# Altium footprint library Interface_PcbLib.PcbLib: 20 footprints (part 2 of 2)
Each footprint in its own frame and in the unit in brackets; x right, y up, seen from the top. Pads: shape width x height; smd on the part's side, far side on the other; paste and mask are expansions set on the pad; w line width, h text height; cw(c..) or ccw(c..) is an arc to the next point about the centre after c.
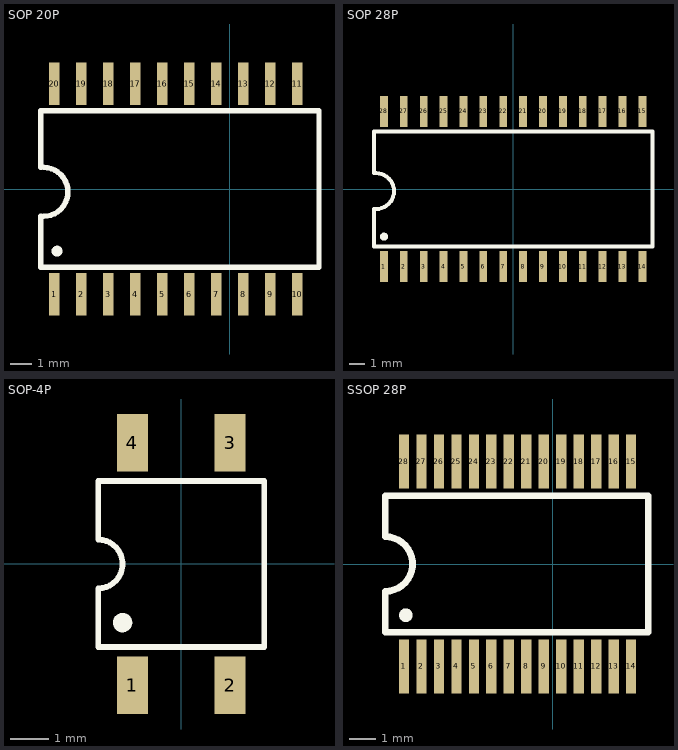
[diagram p1: the footprints below, top view; thin cyan lines are the x and y axes]

## SOP 20P [mm] "1.27 mm 糴7.5mm"
pads (20):
  rect 0.5x2 smd: 1(-8.255,-4.953) 2(-6.985,-4.953) 3(-5.715,-4.953) 4(-4.445,-4.953) 5(-3.175,-4.953) 6(-1.905,-4.953) 7(-0.635,-4.953) 8(0.635,-4.953) 9(1.905,-4.953) 10(3.175,-4.953) 11(3.175,4.953) 12(1.905,4.953) 13(0.635,4.953) 14(-0.635,4.953) 15(-1.905,4.953) 16(-3.175,4.953) 17(-4.445,4.953) 18(-5.715,4.953) 19(-6.985,4.953) 20(-8.255,4.953)
Top Overlay:
  circle w0.254: c-8.128,-2.921 r0.127
  lines w0.254: -8.89,-1.284 -8.89,-3.683 4.191,-3.683 4.191,3.683 -8.89,3.683 -8.89,1.016 ; -8.763,-1.284 ccw(c-8.763,-0.134) -8.763,1.016
3D body "User Library-SOIC_20-300.STEP": height 2.6, standoff 0, extent -8.84,-5.207 3.76,5.193

## SOP 28P [mm] "1.27 mm 糴7.5mm"
pads (28):
  rect 0.5x2 smd: 1(-8.255,-4.953) 2(-6.985,-4.953) 3(-5.715,-4.953) 4(-4.445,-4.953) 5(-3.175,-4.953) 6(-1.905,-4.953) 7(-0.635,-4.953) 8(0.635,-4.953) 9(1.905,-4.953) 10(3.175,-4.953) 11(4.445,-4.953) 12(5.715,-4.953) 13(6.985,-4.953) 14(8.255,-4.953) 15(8.255,4.953) 16(6.985,4.953) 17(5.715,4.953) 18(4.445,4.953) 19(3.175,4.953) 20(1.905,4.953) 21(0.635,4.953) 22(-0.635,4.953) 23(-1.905,4.953) 24(-3.175,4.953) 25(-4.445,4.953) 26(-5.715,4.953) 27(-6.985,4.953) 28(-8.255,4.953)
Top Overlay:
  circle w0.254: c-8.255,-3.048 r0.127
  lines w0.254: -8.89,-1.284 -8.89,-3.683 8.89,-3.683 8.89,3.683 -8.89,3.683 -8.89,1.016 ; -8.763,-1.284 ccw(c-8.763,-0.134) -8.763,1.016
3D body "User Library-SOIC-28-300.STEP": height 2.57, standoff -0.03, extent -9.05,-5.362 9.05,5.238

## SOP-4P [mm] "1.27mm"
pads (4):
  rect 0.8x1.5 smd: 1(-1.27,-3.15) 2(1.27,-3.15) 3(1.27,3.15) 4(-1.27,3.15)
Top Overlay:
  circle w0.25: c-1.524,-1.524 r0.127
  lines w0.15: -2.159,-2.159 2.159,-2.159 2.159,2.159 -2.159,2.159 -2.159,0.635 cw(c-2.159,0) -2.159,-0.635 -2.159,-2.159
3D body "User Library-4-SOP.STEP": height 2.1, standoff 0, extent -2.15,-3.4 2.15,3.4

## SSOP 28P [mm] "0.65mm"
pads (28):
  rect 0.38x2 smd: 1(-5.529,-3.81) 2(-4.879,-3.81) 3(-4.229,-3.81) 4(-3.579,-3.81) 5(-2.929,-3.81) 6(-2.279,-3.81) 7(-1.629,-3.81) 8(-0.979,-3.81) 9(-0.329,-3.81) 10(0.321,-3.81) 11(0.971,-3.81) 12(1.621,-3.81) 13(2.271,-3.81) 14(2.921,-3.81) 15(2.921,3.81) 16(2.271,3.81) 17(1.621,3.81) 18(0.971,3.81) 19(0.321,3.81) 20(-0.329,3.81) 21(-0.979,3.81) 22(-1.629,3.81) 23(-2.279,3.81) 24(-2.929,3.81) 25(-3.579,3.81) 26(-4.229,3.81) 27(-4.879,3.81) 28(-5.529,3.81)
Top Overlay:
  circle w0.254: c-5.461,-1.905 r0.127
  lines w0.254: -6.223,-2.54 -6.223,-1.016 ccw(c-6.223,0) -6.223,1.016 -6.223,2.54 3.556,2.54 3.556,-2.54 -6.223,-2.54
3D body "User Library-SSOP-28-1.step": height 2.15, standoff 0, extent -6.455,-3.878 3.875,3.878